# EAGLE library part MC9S08SGXX (library lib_stankus)
Freescale MS9S08SGXX MCU Farnell #1835089
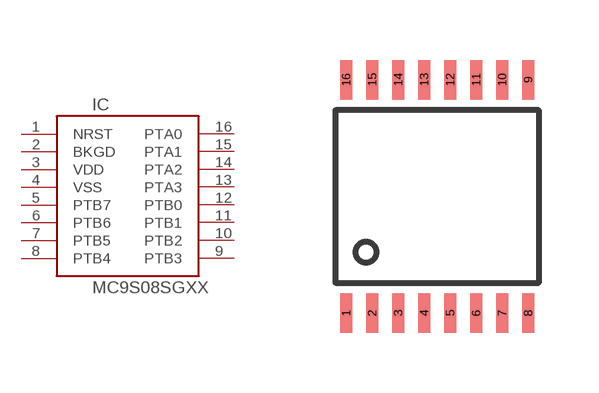
[diagram p62: symbol with the pads of TSSOP16; footprint TSSOP16]

Designator prefix IC

## MC9S08SGXX-TSSOP16  [TSSOP16]
1  NRST  pas
2  BKGD  pas
3  VDD  pas
4  VSS  pas
5  PTB7  pas
6  PTB6  pas
7  PTB5  pas
8  PTB4  pas
9  PTB3  pas
10  PTB2  pas
11  PTB1  pas
12  PTB0  pas
13  PTA3  pas
14  PTA2  pas
15  PTA1  pas
16  PTA0  pas

## Footprint TSSOP16 (pad centres in mm)
TSSOP16
smd 0.305 x 0.991: 1 -2.275,-2.921; 2 -1.625,-2.921; 3 -0.975,-2.921; 4 -0.325,-2.921; 5 0.325,-2.921; 6 0.975,-2.921; 7 1.625,-2.921; 8 2.275,-2.921; 9 2.275,2.921; 10 1.625,2.921; 11 0.975,2.921; 12 0.325,2.921; 13 -0.325,2.921; 14 -0.975,2.921; 15 -1.625,2.921; 16 -2.275,2.921